# EAGLE library part ICPT2272 (library chuong)
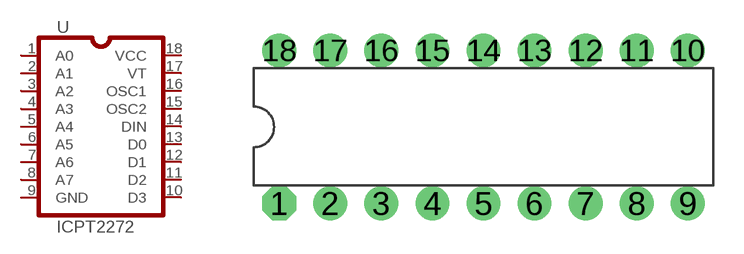
[diagram p20: symbol with the pads of DIL-18; footprint DIL-18]

Designator prefix -

## ICPT2272  [DIL-18]
1  A0  out
2  A1  out
3  A2  out
4  A3  in
5  A4  out
6  A5  out
7  A6  out
8  A7  out
9  GND  out
10  D3  out
11  D2  in
12  D1  in
13  D0  in
14  DIN  in
15  OSC2  in
16  OSC1  in
17  VT  in
18  VCC  in

## Footprint DIL-18 (pad centres in mm)
drill 0.61 pad 1.676 octagon: 1 -10.16,-3.81
drill 0.61 pad 1.676 round: 2 -7.62,-3.81; 3 -5.08,-3.81; 4 -2.54,-3.81; 5 0,-3.81; 6 2.54,-3.81; 7 5.08,-3.81; 8 7.62,-3.81; 9 10.16,-3.81; 10 10.16,3.81; 11 7.62,3.81; 12 5.08,3.81; 13 2.54,3.81; 14 0,3.81; 15 -2.54,3.81; 16 -5.08,3.81; 17 -7.62,3.81; 18 -10.16,3.81